# Altium integrated library National Semiconductor Analog.IntLib: 165 symbols (part 4 of 5)
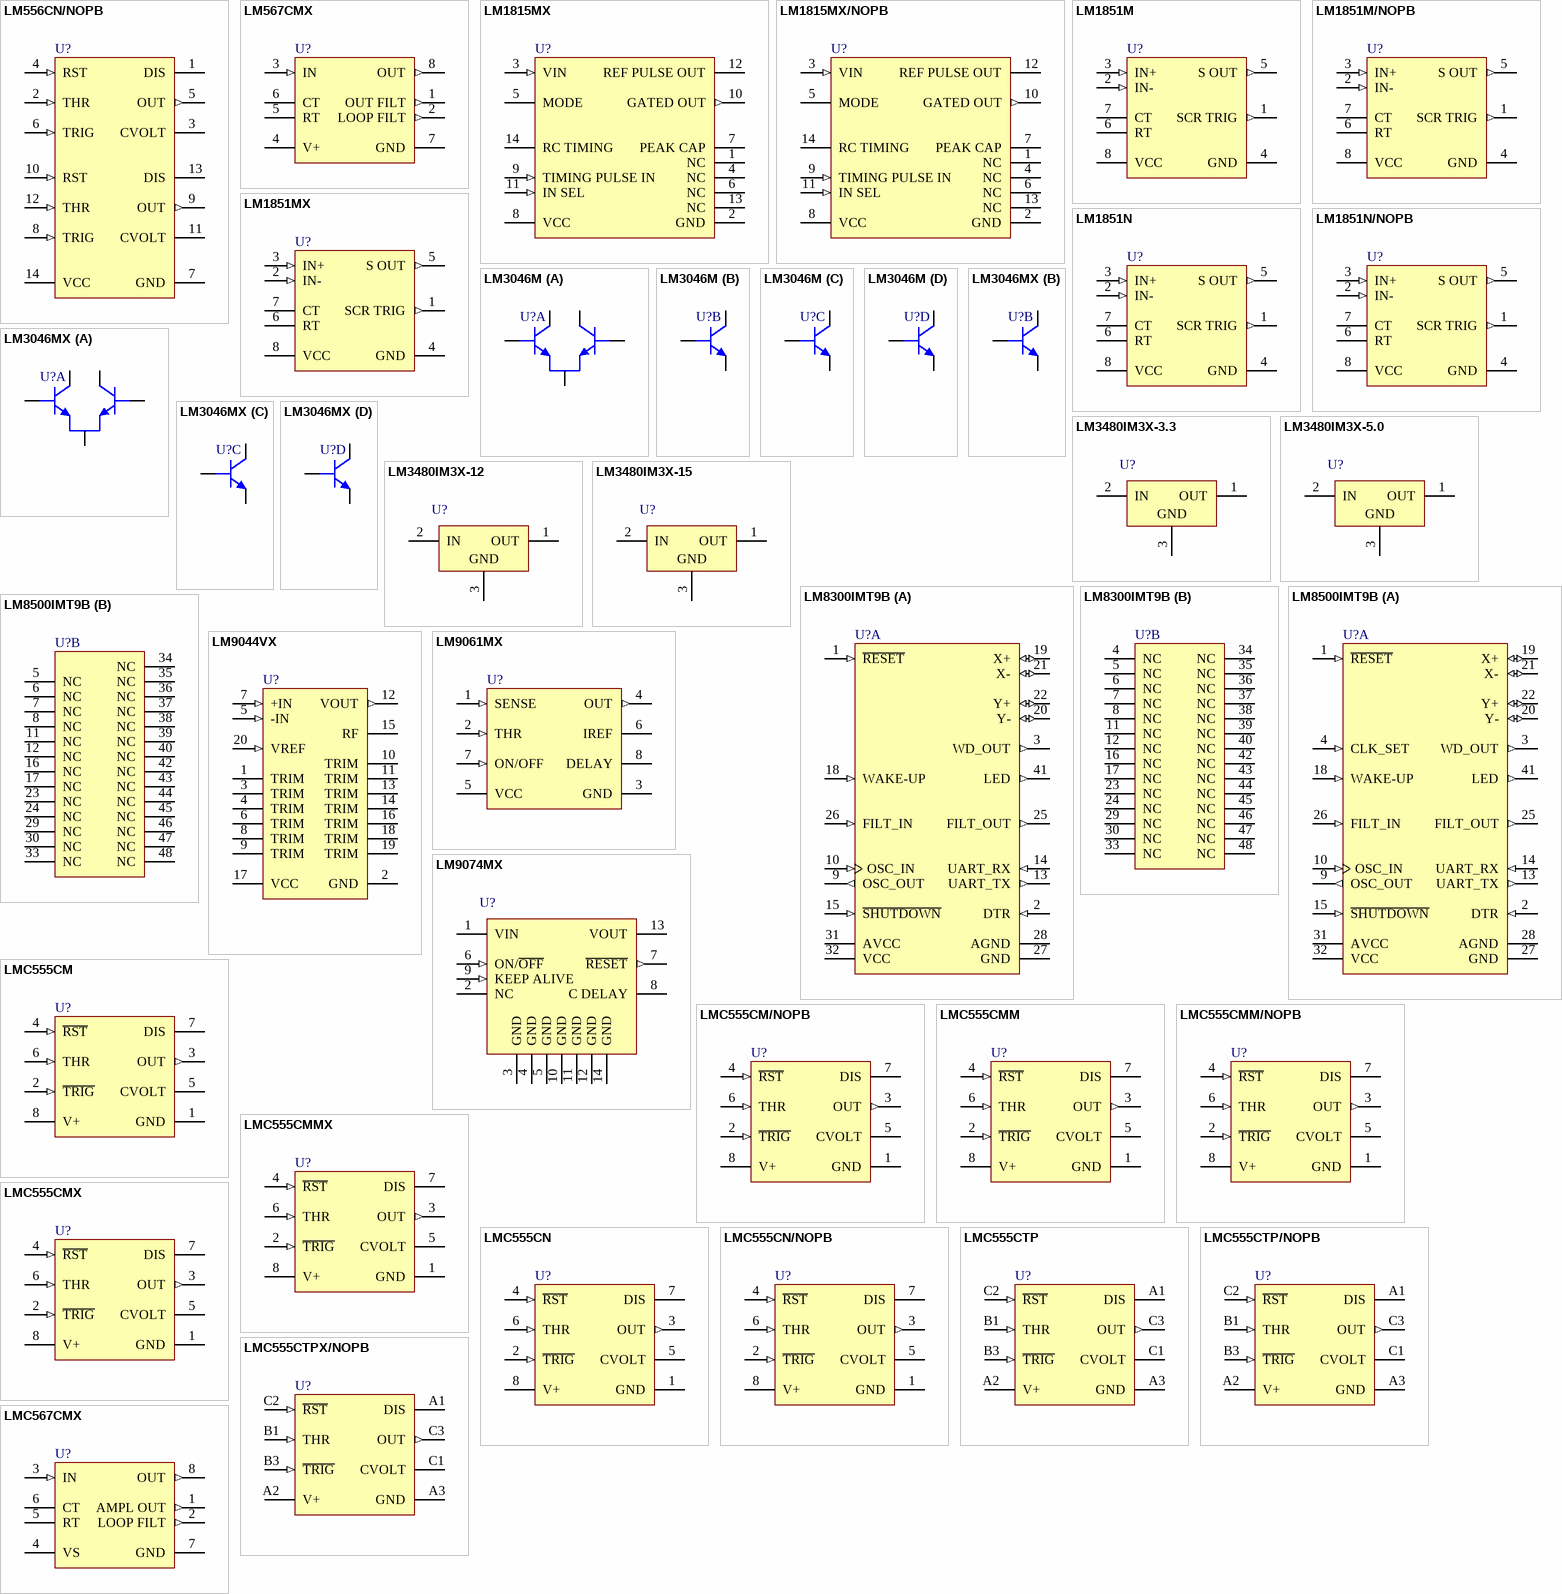
[diagram p10: symbols LM556CN/NOPB to LMC567CMX]

## LMC555CM/NOPB
designator U?
CMOS Timer, 8-pin Narrow SOIC, Pb-Free; PartNumber: LMC555CM/NOPB; Manufacturer: National Semiconductor; PackageTopMarking: NSZXTT*LMC*555CM; PowerWise: N; CompType: Analog IC; High-Reliability: Y; DatasheetVersion: May-2006; PackageVersion: revM, May-2009; PackageReference: M08A; PackageDescription: SOIC Narrow, 4.9 x 3.9 x 1.45mm, 8 Lead, 1.27mm Pitch; RoHS: Y; PinCount: 8; Code_JEDEC: MS-012-AA; Code_IPC: SOIC127P600-8; ComponentLink1Description: Manufacturer URL; ComponentLink1URL: http://www.national.com/; ComponentLink2Description: LMC555 Datasheet; ComponentLink2URL: http://www.national.com/ds/LM/LMC555.pdf; ComponentLink3Description: LMC555 Web Page; ComponentLink3URL: http://www.national.com/pf/LM/LMC555.html; ComponentLink4Description: M08A Package Page; ComponentLink4URL: http://www.national.com/packaging/folders/m08a.html
footprint M08A_N (SOIC, 8-Leads, Body 4.9x3.9mm, Pitch 1.27mm, IPC Medium Density)
footprint M08A_L (SOIC, 8-Leads, Body 4.9x3.9mm, Pitch 1.27mm, IPC High Density)
footprint M08A_M (SOIC, 8-Leads, Body 4.9x3.9mm, Pitch 1.27mm, IPC Low Density)
pins: 1 GND (power), 2 ~{TRIG} (in), 3 OUT (out), 4 ~{RST} (in), 5 CVOLT, 6 THR (in), 7 DIS (oc), 8 V+ (power)

## LMC555CMM
designator U?
CMOS Timer, 8-pin Mini SOIC; PartNumber: LMC555CMM; Manufacturer: National Semiconductor; PackageTopMarking: ZXTT*ZC5; PowerWise: N; CompType: Analog IC; High-Reliability: Y; DatasheetVersion: May-2006; PackageVersion: revF, Apr-2008; PackageReference: MUA08A; PackageDescription: MINI SOIC, .118 x .118 x .034in, 8 Lead, .0256in Pitch; RoHS: N; PinCount: 8; Code_JEDEC: MO-187-AA; ComponentLink1Description: Manufacturer URL; ComponentLink1URL: http://www.national.com/; ComponentLink2Description: LMC555 Datasheet; ComponentLink2URL: http://www.national.com/ds/LM/LMC555.pdf; ComponentLink3Description: LMC555 Web Page; ComponentLink3URL: http://www.national.com/pf/LM/LMC555.html; ComponentLink4Description: MUA08A Package Page; ComponentLink4URL: http://www.national.com/packaging/folders/mua08a.html
footprint MUA08A_N (TSOP, 8-Leads, Body 3x3mm, Pitch 0.65mm, IPC Medium Density)
footprint MUA08A_L (TSOP, 8-Leads, Body 3x3mm, Pitch 0.65mm, IPC High Density)
footprint MUA08A_M (TSOP, 8-Leads, Body 3x3mm, Pitch 0.65mm, IPC Low Density)
pins: 1 GND (power), 2 ~{TRIG} (in), 3 OUT (out), 4 ~{RST} (in), 5 CVOLT, 6 THR (in), 7 DIS (oc), 8 V+ (power)

## LMC555CMM/NOPB
designator U?
CMOS Timer, 8-pin Mini SOIC, Pb-Free; PartNumber: LMC555CMM/NOPB; Manufacturer: National Semiconductor; PackageTopMarking: ZXTT*ZC5; PowerWise: N; CompType: Analog IC; High-Reliability: Y; DatasheetVersion: May-2006; PackageVersion: revF, Apr-2008; PackageReference: MUA08A; PackageDescription: MINI SOIC, .118 x .118 x .034in, 8 Lead, .0256in Pitch; RoHS: Y; PinCount: 8; Code_JEDEC: MO-187-AA; ComponentLink1Description: Manufacturer URL; ComponentLink1URL: http://www.national.com/; ComponentLink2Description: LMC555 Datasheet; ComponentLink2URL: http://www.national.com/ds/LM/LMC555.pdf; ComponentLink3Description: LMC555 Web Page; ComponentLink3URL: http://www.national.com/pf/LM/LMC555.html; ComponentLink4Description: MUA08A Package Page; ComponentLink4URL: http://www.national.com/packaging/folders/mua08a.html
footprint MUA08A_N (TSOP, 8-Leads, Body 3x3mm, Pitch 0.65mm, IPC Medium Density)
footprint MUA08A_L (TSOP, 8-Leads, Body 3x3mm, Pitch 0.65mm, IPC High Density)
footprint MUA08A_M (TSOP, 8-Leads, Body 3x3mm, Pitch 0.65mm, IPC Low Density)
pins: 1 GND (power), 2 ~{TRIG} (in), 3 OUT (out), 4 ~{RST} (in), 5 CVOLT, 6 THR (in), 7 DIS (oc), 8 V+ (power)

## LMC555CMMX
designator U?
CMOS Timer, 8-pin Mini SOIC; PartNumber: LMC555CMMX; Manufacturer: National Semiconductor; PackageTopMarking: ZXTT*ZC5; PowerWise: N; CompType: Analog IC; High-Reliability: Y; DatasheetVersion: May-2006; PackageVersion: revF, Apr-2008; PackageReference: MUA08A; PackageDescription: MINI SOIC, .118 x .118 x .034in, 8 Lead, .0256in Pitch; RoHS: N; PinCount: 8; Code_JEDEC: MO-187-AA; ComponentLink1Description: Manufacturer URL; ComponentLink1URL: http://www.national.com/; ComponentLink2Description: LMC555 Datasheet; ComponentLink2URL: http://www.national.com/ds/LM/LMC555.pdf; ComponentLink3Description: LMC555 Web Page; ComponentLink3URL: http://www.national.com/pf/LM/LMC555.html; ComponentLink4Description: MUA08A Package Page; ComponentLink4URL: http://www.national.com/packaging/folders/mua08a.html
footprint MUA08A_N (TSOP, 8-Leads, Body 3x3mm, Pitch 0.65mm, IPC Medium Density)
footprint MUA08A_L (TSOP, 8-Leads, Body 3x3mm, Pitch 0.65mm, IPC High Density)
footprint MUA08A_M (TSOP, 8-Leads, Body 3x3mm, Pitch 0.65mm, IPC Low Density)
pins: 1 GND (power), 2 ~{TRIG} (in), 3 OUT (out), 4 ~{RST} (in), 5 CVOLT, 6 THR (in), 7 DIS (oc), 8 V+ (power)

## LMC555CMX
designator U?
CMOS Timer, 8-pin Narrow SOIC; PartNumber: LMC555CMX; Manufacturer: National Semiconductor; PackageTopMarking: NSZXTT*LMC*555CM; PowerWise: N; CompType: Analog IC; High-Reliability: Y; DatasheetVersion: May-2006; PackageVersion: revM, May-2009; PackageReference: M08A; PackageDescription: SOIC Narrow, 4.9 x 3.9 x 1.45mm, 8 Lead, 1.27mm Pitch; RoHS: N; PinCount: 8; Code_JEDEC: MS-012-AA; Code_IPC: SOIC127P600-8; ComponentLink1Description: Manufacturer URL; ComponentLink1URL: http://www.national.com/; ComponentLink2Description: LMC555 Datasheet; ComponentLink2URL: http://www.national.com/ds/LM/LMC555.pdf; ComponentLink3Description: LMC555 Web Page; ComponentLink3URL: http://www.national.com/pf/LM/LMC555.html; ComponentLink4Description: M08A Package Page; ComponentLink4URL: http://www.national.com/packaging/folders/m08a.html
footprint M08A_N (SOIC, 8-Leads, Body 4.9x3.9mm, Pitch 1.27mm, IPC Medium Density)
footprint M08A_L (SOIC, 8-Leads, Body 4.9x3.9mm, Pitch 1.27mm, IPC High Density)
footprint M08A_M (SOIC, 8-Leads, Body 4.9x3.9mm, Pitch 1.27mm, IPC Low Density)
pins: 1 GND (power), 2 ~{TRIG} (in), 3 OUT (out), 4 ~{RST} (in), 5 CVOLT, 6 THR (in), 7 DIS (oc), 8 V+ (power)

## LMC555CN
designator U?
CMOS Timer, 8-pin MDIP; PartNumber: LMC555CN; Manufacturer: National Semiconductor; PackageTopMarking: NSUZXYTTE#*LMC*555CN; PowerWise: N; CompType: Analog IC; High-Reliability: Y; DatasheetVersion: May-2006; PackageVersion: revG, May-2006; PackageReference: N08E; PackageDescription: MDIP, .365 x .250 x .130in, 8 Lead, .100in Pitch; RoHS: N; PinCount: 8; Code_JEDEC: MS-001-BA; ComponentLink1Description: Manufacturer URL; ComponentLink1URL: http://www.national.com/; ComponentLink2Description: LMC555 Datasheet; ComponentLink2URL: http://www.national.com/ds/LM/LMC555.pdf; ComponentLink3Description: LMC555 Web Page; ComponentLink3URL: http://www.national.com/pf/LM/LMC555.html; ComponentLink4Description: N08E Package Page; ComponentLink4URL: http://www.national.com/packaging/folders/n08e.html
footprint N08E (DIP, 8-Leads, Row Spacing 7.62mm, Pitch 2.54mm, Body 9.91x6.35mm)
pins: 1 GND (power), 2 ~{TRIG} (in), 3 OUT (out), 4 ~{RST} (in), 5 CVOLT, 6 THR (in), 7 DIS (oc), 8 V+ (power)

## LMC555CN/NOPB
designator U?
CMOS Timer, 8-pin MDIP, Pb-Free; PartNumber: LMC555CN/NOPB; Manufacturer: National Semiconductor; PackageTopMarking: NSUZXYTTE#*LMC*555CN; PowerWise: N; CompType: Analog IC; High-Reliability: Y; DatasheetVersion: May-2006; PackageVersion: revG, May-2006; PackageReference: N08E; PackageDescription: MDIP, .365 x .250 x .130in, 8 Lead, .100in Pitch; RoHS: Y; PinCount: 8; Code_JEDEC: MS-001-BA; ComponentLink1Description: Manufacturer URL; ComponentLink1URL: http://www.national.com/; ComponentLink2Description: LMC555 Datasheet; ComponentLink2URL: http://www.national.com/ds/LM/LMC555.pdf; ComponentLink3Description: LMC555 Web Page; ComponentLink3URL: http://www.national.com/pf/LM/LMC555.html; ComponentLink4Description: N08E Package Page; ComponentLink4URL: http://www.national.com/packaging/folders/n08e.html
footprint N08E (DIP, 8-Leads, Row Spacing 7.62mm, Pitch 2.54mm, Body 9.91x6.35mm)
pins: 1 GND (power), 2 ~{TRIG} (in), 3 OUT (out), 4 ~{RST} (in), 5 CVOLT, 6 THR (in), 7 DIS (oc), 8 V+ (power)

## LMC555CTP
designator U?
CMOS Timer, 8-pin Micro SMD; PartNumber: LMC555CTP; Manufacturer: National Semiconductor; PackageTopMarking: XVF*I 02; PowerWise: N; CompType: Analog IC; High-Reliability: Y; DatasheetVersion: May-2006; PackageVersion: revA, Mar-2002; PackageReference: TPA08FGA; PackageDescription: Thin Micro SMD, 8 Bump, 0.5mm Pitch; RoHS: Y; PinCount: 8; Code_JEDEC: MO-211-BC; ComponentLink1Description: Manufacturer URL; ComponentLink1URL: http://www.national.com/; ComponentLink2Description: LMC555 Datasheet; ComponentLink2URL: http://www.national.com/ds/LM/LMC555.pdf; ComponentLink3Description: LMC555 Web Page; ComponentLink3URL: http://www.national.com/pf/LM/LMC555.html; ComponentLink4Description: TPA08FGA Package Page; ComponentLink4URL: http://www.national.com/packaging/folders/tpa08fga.html
footprint TPA08FGA (Micro SMD, 8-Leads, Body 1.44x1.41mm, Pitch 0.5mm, NSC Recommended)
pins: A1 DIS (oc), A2 V+ (power), A3 GND (power), B1 THR (in), B3 ~{TRIG} (in), C1 CVOLT, C2 ~{RST} (in), C3 OUT (out)

## LMC555CTP/NOPB
designator U?
CMOS Timer, 8-pin Micro SMD, Pb-Free; PartNumber: LMC555CTP/NOPB; Manufacturer: National Semiconductor; PackageTopMarking: XVF*I 02; PowerWise: N; CompType: Analog IC; High-Reliability: Y; DatasheetVersion: May-2006; PackageVersion: revA, Mar-2002; PackageReference: TPA08FGA; PackageDescription: Thin Micro SMD, 8 Bump, 0.5mm Pitch; RoHS: Y; PinCount: 8; Code_JEDEC: MO-211-BC; ComponentLink1Description: Manufacturer URL; ComponentLink1URL: http://www.national.com/; ComponentLink2Description: LMC555 Datasheet; ComponentLink2URL: http://www.national.com/ds/LM/LMC555.pdf; ComponentLink3Description: LMC555 Web Page; ComponentLink3URL: http://www.national.com/pf/LM/LMC555.html; ComponentLink4Description: TPA08FGA Package Page; ComponentLink4URL: http://www.national.com/packaging/folders/tpa08fga.html
footprint TPA08FGA (Micro SMD, 8-Leads, Body 1.44x1.41mm, Pitch 0.5mm, NSC Recommended)
pins: A1 DIS (oc), A2 V+ (power), A3 GND (power), B1 THR (in), B3 ~{TRIG} (in), C1 CVOLT, C2 ~{RST} (in), C3 OUT (out)

## LMC555CTPX/NOPB
designator U?
CMOS Timer, 8-pin Micro SMD, Pb-Free; PartNumber: LMC555CTPX/NOPB; Manufacturer: National Semiconductor; PackageTopMarking: XVF*I 02; PowerWise: N; CompType: Analog IC; High-Reliability: Y; DatasheetVersion: May-2006; PackageVersion: revA, Mar-2002; PackageReference: TPA08FGA; PackageDescription: Thin Micro SMD, 8 Bump, 0.5mm Pitch; RoHS: Y; PinCount: 8; Code_JEDEC: MO-211-BC; ComponentLink1Description: Manufacturer URL; ComponentLink1URL: http://www.national.com/; ComponentLink2Description: LMC555 Datasheet; ComponentLink2URL: http://www.national.com/ds/LM/LMC555.pdf; ComponentLink3Description: LMC555 Web Page; ComponentLink3URL: http://www.national.com/pf/LM/LMC555.html; ComponentLink4Description: TPA08FGA Package Page; ComponentLink4URL: http://www.national.com/packaging/folders/tpa08fga.html
footprint TPA08FGA (Micro SMD, 8-Leads, Body 1.44x1.41mm, Pitch 0.5mm, NSC Recommended)
pins: A1 DIS (oc), A2 V+ (power), A3 GND (power), B1 THR (in), B3 ~{TRIG} (in), C1 CVOLT, C2 ~{RST} (in), C3 OUT (out)

## LMC567CMX
designator U?
Low Power Tone Decoder, 8-pin Narrow SOIC; PartNumber: LMC567CMX; Manufacturer: National Semiconductor; PackageTopMarking: NSZXTT*LMC*567CM; PowerWise: N; CompType: Analog IC; High-Reliability: Y; DatasheetVersion: Jun-1999; PackageVersion: revM, May-2009; PackageReference: M08A; PackageDescription: SOIC Narrow, 4.9 x 3.9 x 1.45mm, 8 Lead, 1.27mm Pitch; RoHS: N; PinCount: 8; Code_JEDEC: MS-012-AA; Code_IPC: SOIC127P600-8; ComponentLink1Description: Manufacturer URL; ComponentLink1URL: http://www.national.com/; ComponentLink2Description: LMC567 Datasheet; ComponentLink2URL: http://www.national.com/ds/LM/LMC567.pdf; ComponentLink3Description: LMC567 Web Page; ComponentLink3URL: http://www.national.com/pf/LM/LMC567.html; ComponentLink4Description: M08A Package Page; ComponentLink4URL: http://www.national.com/packaging/folders/m08a.html
footprint M08A_N (SOIC, 8-Leads, Body 4.9x3.9mm, Pitch 1.27mm, IPC Medium Density)
footprint M08A_L (SOIC, 8-Leads, Body 4.9x3.9mm, Pitch 1.27mm, IPC High Density)
footprint M08A_M (SOIC, 8-Leads, Body 4.9x3.9mm, Pitch 1.27mm, IPC Low Density)
pins: 1 AMPL OUT (out), 2 LOOP FILT (out), 3 IN (in), 4 VS (power), 5 RT, 6 CT, 7 GND (power), 8 OUT (out)

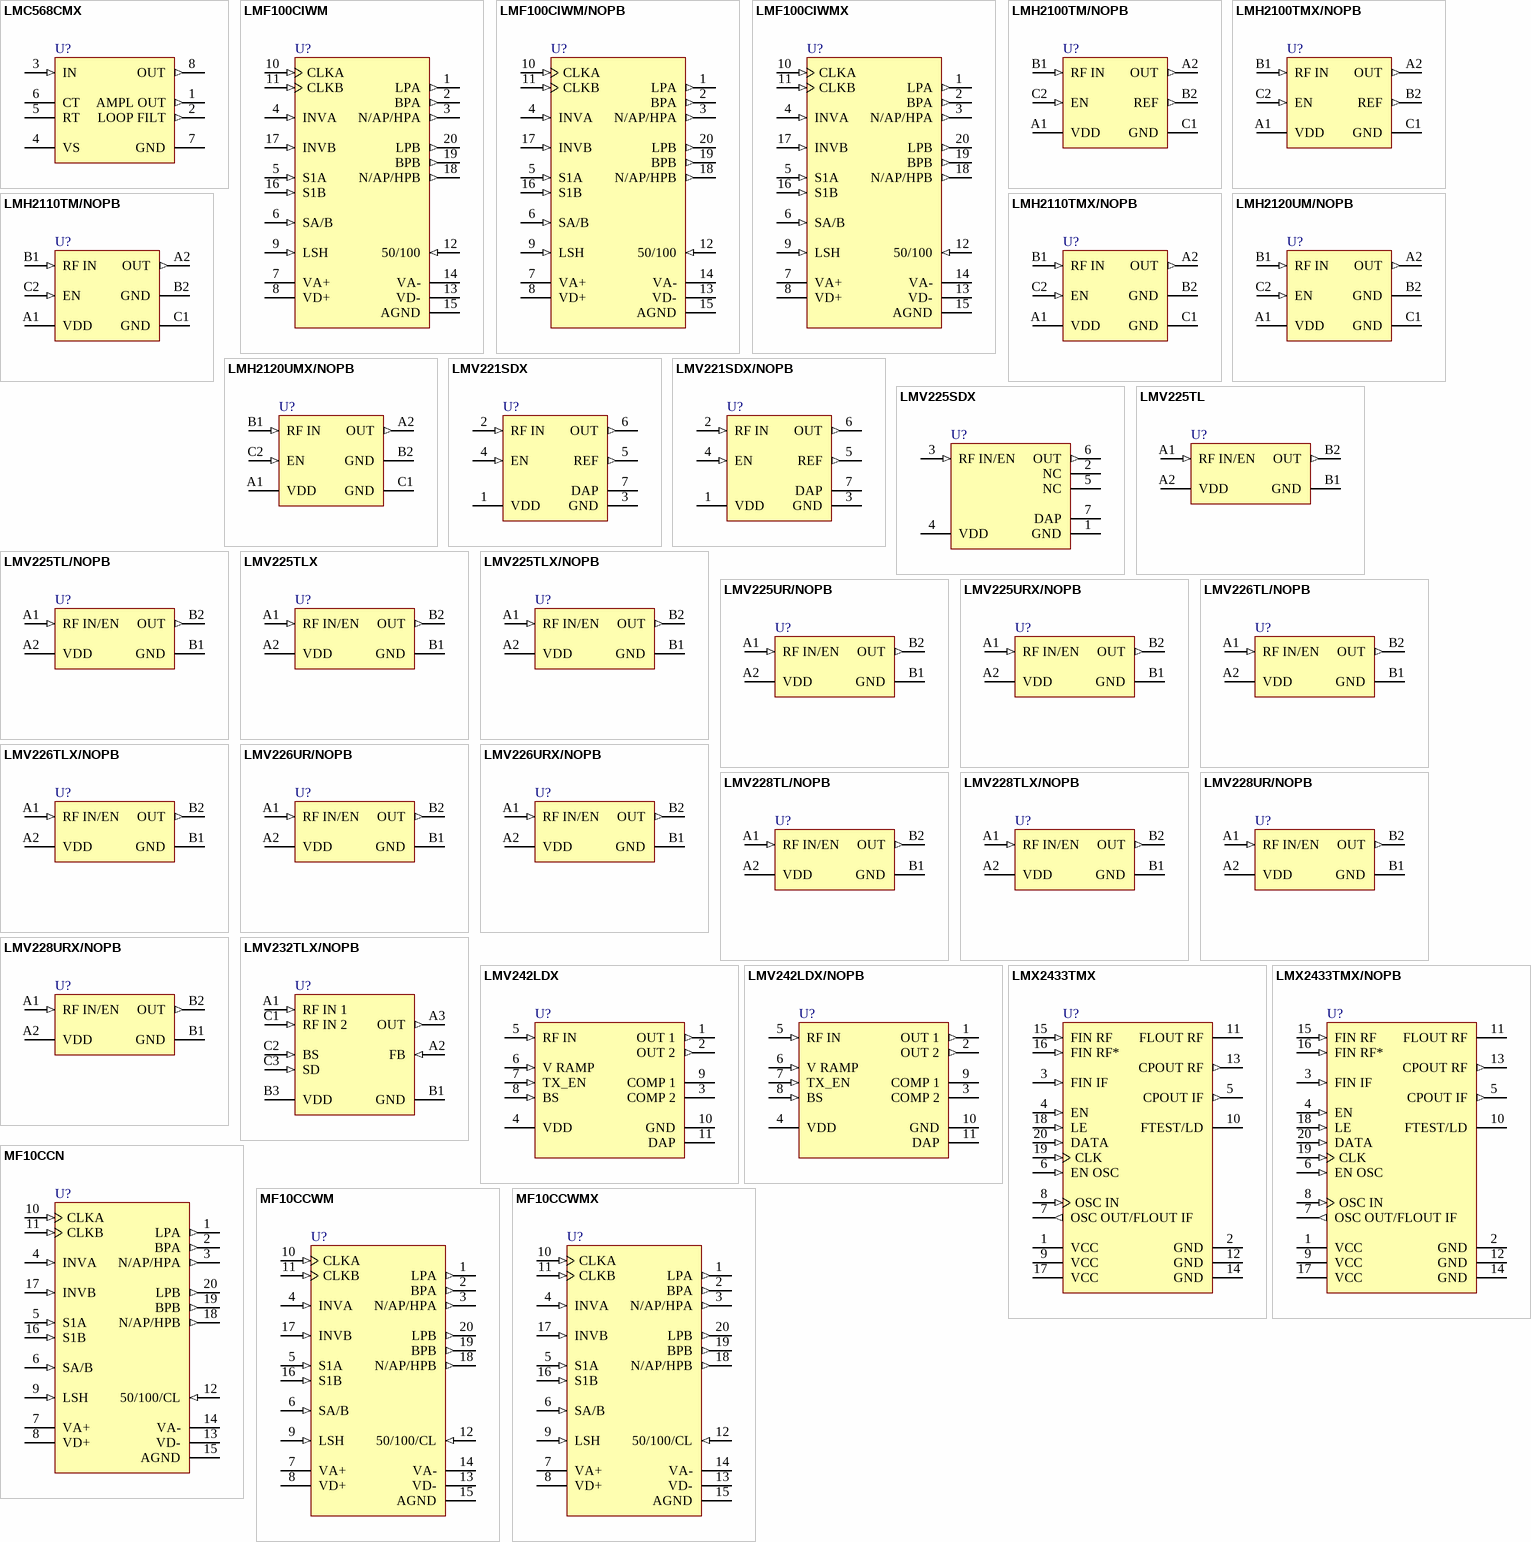
[diagram p6: symbols LMC568CMX to MF10CCWMX]

## LMC568CMX
designator U?
Low Power Phase-Locked Loop, 8-pin Narrow SOIC; PartNumber: LMC568CMX; Manufacturer: National Semiconductor; PackageTopMarking: NSZXTT*LMC*568CM; PowerWise: N; CompType: Analog IC; High-Reliability: Y; DatasheetVersion: May-1999; PackageVersion: revM, May-2009; PackageReference: M08A; PackageDescription: SOIC Narrow, 4.9 x 3.9 x 1.45mm, 8 Lead, 1.27mm Pitch; RoHS: N; PinCount: 8; Code_JEDEC: MS-012-AA; Code_IPC: SOIC127P600-8; ComponentLink1Description: Manufacturer URL; ComponentLink1URL: http://www.national.com/; ComponentLink2Description: LMC568 Datasheet; ComponentLink2URL: http://www.national.com/ds/LM/LMC568.pdf; ComponentLink3Description: LMC568 Web Page; ComponentLink3URL: http://www.national.com/pf/LM/LMC568.html; ComponentLink4Description: M08A Package Page; ComponentLink4URL: http://www.national.com/packaging/folders/m08a.html
footprint M08A_N (SOIC, 8-Leads, Body 4.9x3.9mm, Pitch 1.27mm, IPC Medium Density)
footprint M08A_L (SOIC, 8-Leads, Body 4.9x3.9mm, Pitch 1.27mm, IPC High Density)
footprint M08A_M (SOIC, 8-Leads, Body 4.9x3.9mm, Pitch 1.27mm, IPC Low Density)
pins: 1 AMPL OUT (out), 2 LOOP FILT (out), 3 IN (in), 4 VS (power), 5 RT, 6 CT, 7 GND (power), 8 OUT (out)

## LMF100CIWM
designator U?
High Performance Dual Switched Capacitor Filter, 20-pin Wide SOIC; PartNumber: LMF100CIWM; Manufacturer: National Semiconductor; PackageTopMarking: NSUZXYTTE#*LMF100*CIWM; PowerWise: N; CompType: Analog IC; High-Reliability: Y; DatasheetVersion: Jul-1999; PackageVersion: revG, Jan-1996; PackageReference: M20B; PackageDescription: Molded Package, S0, .300in Wide, 20 Lead; RoHS: N; PinCount: 20; Code_JEDEC: MS-013-AC; Code_IPC: SOIC127P1030-20; ComponentLink1Description: Manufacturer URL; ComponentLink1URL: http://www.national.com/; ComponentLink2Description: LMF100 Datasheet; ComponentLink2URL: http://www.national.com/ds/LM/LMF100.pdf; ComponentLink3Description: LMF100 Web Page; ComponentLink3URL: http://www.national.com/pf/LM/LMF100.html; ComponentLink4Description: M20B Package Page; ComponentLink4URL: http://www.national.com/packaging/folders/m20b.html
footprint M20B_N (SOIC, 20-Leads, Body 12.8x7.5mm, Pitch 1.27mm, IPC Medium Density)
footprint M20B_L (SOIC, 20-Leads, Body 12.8x7.5mm, Pitch 1.27mm, IPC High Density)
footprint M20B_M (SOIC, 20-Leads, Body 12.8x7.5mm, Pitch 1.27mm, IPC Low Density)
pins: 1 LPA (out), 2 BPA (out), 3 N/AP/HPA (out), 4 INVA (in), 5 S1A (in), 6 SA/B (in), 7 VA+ (power), 8 VD+ (power), 9 LSH (in), 10 CLKA (in), 11 CLKB (in), 12 50/100 (in), 13 VD- (power), 14 VA- (power), 15 AGND (power), 16 S1B (in), 17 INVB (in), 18 N/AP/HPB (out), 19 BPB (out), 20 LPB (out)

## LMF100CIWM/NOPB
designator U?
High Performance Dual Switched Capacitor Filter, 20-pin Wide SOIC, Pb-Free; PartNumber: LMF100CIWM/NOPB; Manufacturer: National Semiconductor; PackageTopMarking: NSUZXYTTE#*LMF100*CIWM; PowerWise: N; CompType: Analog IC; High-Reliability: Y; DatasheetVersion: Jul-1999; PackageVersion: revG, Jan-1996; PackageReference: M20B; PackageDescription: Molded Package, S0, .300in Wide, 20 Lead; RoHS: Y; PinCount: 20; Code_JEDEC: MS-013-AC; Code_IPC: SOIC127P1030-20; ComponentLink1Description: Manufacturer URL; ComponentLink1URL: http://www.national.com/; ComponentLink2Description: LMF100 Datasheet; ComponentLink2URL: http://www.national.com/ds/LM/LMF100.pdf; ComponentLink3Description: LMF100 Web Page; ComponentLink3URL: http://www.national.com/pf/LM/LMF100.html; ComponentLink4Description: M20B Package Page; ComponentLink4URL: http://www.national.com/packaging/folders/m20b.html
footprint M20B_N (SOIC, 20-Leads, Body 12.8x7.5mm, Pitch 1.27mm, IPC Medium Density)
footprint M20B_L (SOIC, 20-Leads, Body 12.8x7.5mm, Pitch 1.27mm, IPC High Density)
footprint M20B_M (SOIC, 20-Leads, Body 12.8x7.5mm, Pitch 1.27mm, IPC Low Density)
pins: 1 LPA (out), 2 BPA (out), 3 N/AP/HPA (out), 4 INVA (in), 5 S1A (in), 6 SA/B (in), 7 VA+ (power), 8 VD+ (power), 9 LSH (in), 10 CLKA (in), 11 CLKB (in), 12 50/100 (in), 13 VD- (power), 14 VA- (power), 15 AGND (power), 16 S1B (in), 17 INVB (in), 18 N/AP/HPB (out), 19 BPB (out), 20 LPB (out)

## LMF100CIWMX
designator U?
High Performance Dual Switched Capacitor Filter, 20-pin Wide SOIC; PartNumber: LMF100CIWMX; Manufacturer: National Semiconductor; PackageTopMarking: NSUZXYTTE#*LMF100*CIWM; PowerWise: N; CompType: Analog IC; High-Reliability: Y; DatasheetVersion: Jul-1999; PackageVersion: revG, Jan-1996; PackageReference: M20B; PackageDescription: Molded Package, S0, .300in Wide, 20 Lead; RoHS: N; PinCount: 20; Code_JEDEC: MS-013-AC; Code_IPC: SOIC127P1030-20; ComponentLink1Description: Manufacturer URL; ComponentLink1URL: http://www.national.com/; ComponentLink2Description: LMF100 Datasheet; ComponentLink2URL: http://www.national.com/ds/LM/LMF100.pdf; ComponentLink3Description: LMF100 Web Page; ComponentLink3URL: http://www.national.com/pf/LM/LMF100.html; ComponentLink4Description: M20B Package Page; ComponentLink4URL: http://www.national.com/packaging/folders/m20b.html
footprint M20B_N (SOIC, 20-Leads, Body 12.8x7.5mm, Pitch 1.27mm, IPC Medium Density)
footprint M20B_L (SOIC, 20-Leads, Body 12.8x7.5mm, Pitch 1.27mm, IPC High Density)
footprint M20B_M (SOIC, 20-Leads, Body 12.8x7.5mm, Pitch 1.27mm, IPC Low Density)
pins: 1 LPA (out), 2 BPA (out), 3 N/AP/HPA (out), 4 INVA (in), 5 S1A (in), 6 SA/B (in), 7 VA+ (power), 8 VD+ (power), 9 LSH (in), 10 CLKA (in), 11 CLKB (in), 12 50/100 (in), 13 VD- (power), 14 VA- (power), 15 AGND (power), 16 S1B (in), 17 INVB (in), 18 N/AP/HPB (out), 19 BPB (out), 20 LPB (out)

## LMH2100TM/NOPB
designator U?
50 MHz to 4 GHz 40 dB Logarithmic Power Detector for CDMA and WCDMA, 6-pin Micro SMD, Pb-Free; PartNumber: LMH2100TM/NOPB; Manufacturer: National Semiconductor; PackageTopMarking: XV*I J; PowerWise: N; CompType: Analog IC; High-Reliability: Y; DatasheetVersion: Mar-2008; PackageVersion: revB; PackageReference: TMD06BBA; PackageDescription: Thin Micro SMD, 6 Bump, 0.4mm Pitch; RoHS: Y; PinCount: 6; ComponentLink1Description: Manufacturer URL; ComponentLink1URL: http://www.national.com/; ComponentLink2Description: LMH2100 Datasheet; ComponentLink2URL: http://www.national.com/ds/LM/LMH2100.pdf; ComponentLink3Description: LMH2100 Web Page; ComponentLink3URL: http://www.national.com/pf/LM/LMH2100.html; ComponentLink4Description: TMD06BBA Package Page; ComponentLink4URL: http://www.national.com/packaging/folders/tmd06bba.html
footprint TMD06BBA (Micro SMD, 6-Leads, Body 1.24x0.84mm, Pitch 0.4mm, NSC Recommended)
pins: A1 VDD (power), A2 OUT (out), B1 RF IN (in), B2 REF (out), C1 GND (power), C2 EN (in)

## LMH2100TMX/NOPB
designator U?
50 MHz to 4 GHz 40 dB Logarithmic Power Detector for CDMA and WCDMA, 6-pin Micro SMD, Pb-Free; PartNumber: LMH2100TMX/NOPB; Manufacturer: National Semiconductor; PackageTopMarking: XV*I J; PowerWise: N; CompType: Analog IC; High-Reliability: Y; DatasheetVersion: Mar-2008; PackageVersion: revB; PackageReference: TMD06BBA; PackageDescription: Thin Micro SMD, 6 Bump, 0.4mm Pitch; RoHS: Y; PinCount: 6; ComponentLink1Description: Manufacturer URL; ComponentLink1URL: http://www.national.com/; ComponentLink2Description: LMH2100 Datasheet; ComponentLink2URL: http://www.national.com/ds/LM/LMH2100.pdf; ComponentLink3Description: LMH2100 Web Page; ComponentLink3URL: http://www.national.com/pf/LM/LMH2100.html; ComponentLink4Description: TMD06BBA Package Page; ComponentLink4URL: http://www.national.com/packaging/folders/tmd06bba.html
footprint TMD06BBA (Micro SMD, 6-Leads, Body 1.24x0.84mm, Pitch 0.4mm, NSC Recommended)
pins: A1 VDD (power), A2 OUT (out), B1 RF IN (in), B2 REF (out), C1 GND (power), C2 EN (in)

## LMH2110TM/NOPB
designator U?
8 GHz Logarithmic RMS Power Detector with 45 dB dynamic range, 6-pin Micro SMD, Pb-Free; PartNumber: LMH2110TM/NOPB; Manufacturer: National Semiconductor; PackageTopMarking: XV*I P; PowerWise: N; CompType: Analog IC; High-Reliability: Y; DatasheetVersion: Jan-2010; PackageVersion: revB; PackageReference: TMD06BBA; PackageDescription: Thin Micro SMD, 6 Bump, 0.4mm Pitch; RoHS: Y; PinCount: 6; ComponentLink1Description: Manufacturer URL; ComponentLink1URL: http://www.national.com/; ComponentLink2Description: LMH2110 Datasheet; ComponentLink2URL: http://www.national.com/ds/LM/LMH2110.pdf; ComponentLink3Description: LMH2110 Web Page; ComponentLink3URL: http://www.national.com/pf/LM/LMH2110.html; ComponentLink4Description: TMD06BBA Package Page; ComponentLink4URL: http://www.national.com/packaging/folders/tmd06bba.html
footprint TMD06BBA (Micro SMD, 6-Leads, Body 1.24x0.84mm, Pitch 0.4mm, NSC Recommended)
pins: A1 VDD (power), A2 OUT (out), B1 RF IN (in), B2 GND (power), C1 GND (power), C2 EN (in)

## LMH2110TMX/NOPB
designator U?
8 GHz Logarithmic RMS Power Detector with 45 dB dynamic range, 6-pin Micro SMD, Pb-Free; PartNumber: LMH2110TMX/NOPB; Manufacturer: National Semiconductor; PackageTopMarking: XV*I P; PowerWise: N; CompType: Analog IC; High-Reliability: Y; DatasheetVersion: Jan-2010; PackageVersion: revB; PackageReference: TMD06BBA; PackageDescription: Thin Micro SMD, 6 Bump, 0.4mm Pitch; RoHS: Y; PinCount: 6; ComponentLink1Description: Manufacturer URL; ComponentLink1URL: http://www.national.com/; ComponentLink2Description: LMH2110 Datasheet; ComponentLink2URL: http://www.national.com/ds/LM/LMH2110.pdf; ComponentLink3Description: LMH2110 Web Page; ComponentLink3URL: http://www.national.com/pf/LM/LMH2110.html; ComponentLink4Description: TMD06BBA Package Page; ComponentLink4URL: http://www.national.com/packaging/folders/tmd06bba.html
footprint TMD06BBA (Micro SMD, 6-Leads, Body 1.24x0.84mm, Pitch 0.4mm, NSC Recommended)
pins: A1 VDD (power), A2 OUT (out), B1 RF IN (in), B2 GND (power), C1 GND (power), C2 EN (in)

## LMH2120UM/NOPB
designator U?
6 GHz Linear RMS Power Detector with 40 dB Dynamic Range, 6 pin MICRO SMD; PartNumber: LMH2120UM/NOPB; Manufacturer: National Semiconductor; PackageTopMarking: XV*I R; PowerWise: N; CompType: Analog IC; High-Reliability: Y; DatasheetVersion: Jul-2010; PackageVersion: revB, 2010; PackageReference: UMD06AAA; PackageDescription: Thin Micro SMD, 6 Bump, 0.4mm Pitch; RoHS: Y; PinCount: 6; ComponentLink1Description: Manufacturer URL; ComponentLink1URL: http://www.national.com/; ComponentLink2Description: LMH2120 Datasheet; ComponentLink2URL: http://www.national.com/ds/LM/LMH2120.pdf; ComponentLink3Description: LMH2120 Web Page; ComponentLink3URL: http://www.national.com/pf/LM/LMH2120.html; ComponentLink4Description: UMD06AAA Package Page; ComponentLink4URL: http://www.national.com/packaging/folders/umd06aaa.html
footprint UMD06AAA (Micro SMD, 6-Leads, Body 1.23x0.83mm, Pitch 0.4mm, NSC Recommended)
pins: A1 VDD (power), A2 OUT (out), B1 RF IN (in), B2 GND (power), C1 GND (power), C2 EN (in)

## LMH2120UMX/NOPB
designator U?
6 GHz Linear RMS Power Detector with 40 dB Dynamic Range, 6 pin MICRO SMD; PartNumber: LMH2120UMX/NOPB; Manufacturer: National Semiconductor; PackageTopMarking: XV*I R; PowerWise: N; CompType: Analog IC; High-Reliability: Y; DatasheetVersion: Jul-2010; PackageVersion: revB, 2010; PackageReference: UMD06AAA; PackageDescription: Thin Micro SMD, 6 Bump, 0.4mm Pitch; RoHS: Y; PinCount: 6; ComponentLink1Description: Manufacturer URL; ComponentLink1URL: http://www.national.com/; ComponentLink2Description: LMH2120 Datasheet; ComponentLink2URL: http://www.national.com/ds/LM/LMH2120.pdf; ComponentLink3Description: LMH2120 Web Page; ComponentLink3URL: http://www.national.com/pf/LM/LMH2120.html; ComponentLink4Description: UMD06AAA Package Page; ComponentLink4URL: http://www.national.com/packaging/folders/umd06aaa.html
footprint UMD06AAA (Micro SMD, 6-Leads, Body 1.23x0.83mm, Pitch 0.4mm, NSC Recommended)
pins: A1 VDD (power), A2 OUT (out), B1 RF IN (in), B2 GND (power), C1 GND (power), C2 EN (in)

## LMV221SDX
designator U?
50 MHz to 3.5 GHz 40 dB Logarithmic Power Detector for CDMA and WCDMA, 6-pin LLP; PartNumber: LMV221SDX; Manufacturer: National Semiconductor; PackageTopMarking: XTT*A96; PowerWise: Y; CompType: Analog IC; DatasheetVersion: Mar-2008; PackageVersion: revA, Nov-2003; PackageReference: SDB06A; PackageDescription: LLP, Plastic, Dual, 2.2 x 2.5 x 0.8mm Body, 6 Lead, 0.65mm Pitch, No Pullback; RoHS: N; PinCount: 6; High-Reliability: Y; ComponentLink1Description: Manufacturer URL; ComponentLink1URL: http://www.national.com/; ComponentLink2Description: LMV221 Datasheet; ComponentLink2URL: http://www.national.com/ds/LM/LMV221.pdf; ComponentLink3Description: LMV221 Web Page; ComponentLink3URL: http://www.national.com/pf/LM/LMV221.html; ComponentLink4Description: SDB06A package page; ComponentLink4URL: http://www.national.com/packaging/folders/sdb06a.html
footprint SDB06A (SON, 6-Leads, Body 2.2x2.5mm, Pitch 0.65mm, NSC Recommended (SC-70 Land))
pins: 1 VDD (power), 2 RF IN (in), 3 GND (power), 4 EN (in), 5 REF (out), 6 OUT (out), 7 DAP (power)

## LMV221SDX/NOPB
designator U?
50 MHz to 3.5 GHz 40 dB Logarithmic Power Detector for CDMA and WCDMA, 6-pin LLP, Pb-Free; PartNumber: LMV221SDX/NOPB; Manufacturer: National Semiconductor; PackageTopMarking: XTT*A96; PowerWise: Y; CompType: Analog IC; DatasheetVersion: Mar-2008; PackageVersion: revA, Nov-2003; PackageReference: SDB06A; PackageDescription: LLP, Plastic, Dual, 2.2 x 2.5 x 0.8mm Body, 6 Lead, 0.65mm Pitch, No Pullback; RoHS: Y; PinCount: 6; High-Reliability: Y; ComponentLink1Description: Manufacturer URL; ComponentLink1URL: http://www.national.com/; ComponentLink2Description: LMV221 Datasheet; ComponentLink2URL: http://www.national.com/ds/LM/LMV221.pdf; ComponentLink3Description: LMV221 Web Page; ComponentLink3URL: http://www.national.com/pf/LM/LMV221.html; ComponentLink4Description: SDB06A Package Page; ComponentLink4URL: http://www.national.com/packaging/folders/sdb06a.html
footprint SDB06A (SON, 6-Leads, Body 2.2x2.5mm, Pitch 0.65mm, NSC Recommended (SC-70 Land))
pins: 1 VDD (power), 2 RF IN (in), 3 GND (power), 4 EN (in), 5 REF (out), 6 OUT (out), 7 DAP (power)

## LMV225SDX
designator U?
RF Power Detector for CDMA and WCDMA, 6-pin LLP; PartNumber: LMV225SDX; Manufacturer: National Semiconductor; PackageTopMarking: XTT*A90; PowerWise: Y; CompType: Analog IC; DatasheetVersion: Oct-2006; PackageVersion: revA, Nov-2003; PackageReference: SDB06A; PackageDescription: LLP, Plastic, Dual, 2.2 x 2.5 x 0.8mm Body, 6 Lead, 0.65mm Pitch, No Pullback; RoHS: N; PinCount: 6; High-Reliability: Y; ComponentLink1Description: Manufacturer URL; ComponentLink1URL: http://www.national.com/; ComponentLink2Description: LMV225 Datasheet; ComponentLink2URL: http://www.national.com/ds/LM/LMV225.pdf; ComponentLink3Description: LMV225 Web Page; ComponentLink3URL: http://www.national.com/pf/LM/LMV225.html; ComponentLink4Description: SDB06A package page; ComponentLink4URL: http://www.national.com/packaging/folders/sdb06a.html
footprint SDB06A (SON, 6-Leads, Body 2.2x2.5mm, Pitch 0.65mm, NSC Recommended (SC-70 Land))
pins: 1 GND (power), 2 NC, 3 RF IN/EN (in), 4 VDD (power), 5 NC, 6 OUT (out), 7 DAP (power)

## LMV225TL
designator U?
RF Power Detector for CDMA and WCDMA from the PowerWise® Family, 4-pin Micro SMD; PartNumber: LMV225TL; Manufacturer: National Semiconductor; PackageTopMarking: X*I; PowerWise: Y; CompType: Analog IC; DatasheetVersion: Oct-2006; PackageVersion: revD, Mar-2005; PackageReference: TLA04AAA; PackageDescription: Thin Micro SMD, 4 Bump (Large), 0.5mm Pitch; RoHS: N; PinCount: 4; High-Reliability: Y; Code_JEDEC: MO-211-BA; ComponentLink1Description: Manufacturer URL; ComponentLink1URL: http://www.national.com/; ComponentLink2Description: LMV225 Datasheet; ComponentLink2URL: http://www.national.com/ds/LM/LMV225.pdf; ComponentLink3Description: LMV225 Web Page; ComponentLink3URL: http://www.national.com/pf/LM/LMV225.html; ComponentLink4Description: TLA04AAA package page; ComponentLink4URL: http://www.national.com/packaging/folders/tla04aaa.html
footprint TLA04AAA (Micro SMD, 4-Leads, Body 1.01x1.01mm, Pitch 0.5mm, NSC Recommended)
pins: A1 RF IN/EN (in), A2 VDD (power), B1 GND (power), B2 OUT (out)

## LMV225TL/NOPB
designator U?
RF Power Detector for CDMA and WCDMA, 4-pin Micro SMD, Pb-Free; PartNumber: LMV225TL/NOPB; Manufacturer: National Semiconductor; PackageTopMarking: X*I; PowerWise: Y; CompType: Analog IC; DatasheetVersion: Oct-2006; PackageVersion: revD, Mar-2005; PackageReference: TLA04AAA; PackageDescription: Thin Micro SMD, 4 Bump (Large), 0.5mm Pitch; RoHS: Y; PinCount: 4; High-Reliability: Y; Code_JEDEC: MO-211-BA; ComponentLink1Description: Manufacturer URL; ComponentLink1URL: http://www.national.com/; ComponentLink2Description: LMV225 Datasheet; ComponentLink2URL: http://www.national.com/ds/LM/LMV225.pdf; ComponentLink3Description: LMV225 Web Page; ComponentLink3URL: http://www.national.com/pf/LM/LMV225.html; ComponentLink4Description: TLA04AAA Package Page; ComponentLink4URL: http://www.national.com/packaging/folders/tla04aaa.html
footprint TLA04AAA (Micro SMD, 4-Leads, Body 1.01x1.01mm, Pitch 0.5mm, NSC Recommended)
pins: A1 RF IN/EN (in), A2 VDD (power), B1 GND (power), B2 OUT (out)

## LMV225TLX
designator U?
RF Power Detector for CDMA and WCDMA, 4-pin Micro SMD; PartNumber: LMV225TLX; Manufacturer: National Semiconductor; PackageTopMarking: X*I; PowerWise: Y; CompType: Analog IC; DatasheetVersion: Oct-2006; PackageVersion: revD, Mar-2005; PackageReference: TLA04AAA; PackageDescription: Thin Micro SMD, 4 Bump (Large), 0.5mm Pitch; RoHS: N; PinCount: 4; High-Reliability: Y; Code_JEDEC: MO-211-BA; ComponentLink1Description: Manufacturer URL; ComponentLink1URL: http://www.national.com/; ComponentLink2Description: LMV225 Datasheet; ComponentLink2URL: http://www.national.com/ds/LM/LMV225.pdf; ComponentLink3Description: LMV225 Web Page; ComponentLink3URL: http://www.national.com/pf/LM/LMV225.html; ComponentLink4Description: TLA04AAA package page; ComponentLink4URL: http://www.national.com/packaging/folders/tla04aaa.html
footprint TLA04AAA (Micro SMD, 4-Leads, Body 1.01x1.01mm, Pitch 0.5mm, NSC Recommended)
pins: A1 RF IN/EN (in), A2 VDD (power), B1 GND (power), B2 OUT (out)

## LMV225TLX/NOPB
designator U?
RF Power Detector for CDMA and WCDMA, 4-pin Micro SMD, Pb-Free; PartNumber: LMV225TLX/NOPB; Manufacturer: National Semiconductor; PackageTopMarking: X*I; PowerWise: Y; CompType: Analog IC; DatasheetVersion: Oct-2006; PackageVersion: revD, Mar-2005; PackageReference: TLA04AAA; PackageDescription: Thin Micro SMD, 4 Bump (Large), 0.5mm Pitch; RoHS: Y; PinCount: 4; High-Reliability: Y; Code_JEDEC: MO-211-BA; ComponentLink1Description: Manufacturer URL; ComponentLink1URL: http://www.national.com/; ComponentLink2Description: LMV225 Datasheet; ComponentLink2URL: http://www.national.com/ds/LM/LMV225.pdf; ComponentLink3Description: LMV225 Web Page; ComponentLink3URL: http://www.national.com/pf/LM/LMV225.html; ComponentLink4Description: TLA04AAA Package Page; ComponentLink4URL: http://www.national.com/packaging/folders/tla04aaa.html
footprint TLA04AAA (Micro SMD, 4-Leads, Body 1.01x1.01mm, Pitch 0.5mm, NSC Recommended)
pins: A1 RF IN/EN (in), A2 VDD (power), B1 GND (power), B2 OUT (out)

## LMV225UR/NOPB
designator U?
RF Power Detector for CDMA and WCDMA, 4-pin Micro SMD, Pb-Free; PartNumber: LMV225UR/NOPB; Manufacturer: National Semiconductor; PackageTopMarking: X*I; PowerWise: N; CompType: Analog IC; High-Reliability: Y; DatasheetVersion: Oct-2006; PackageVersion: revC, Mar-2005; PackageReference: URA04AAA; PackageDescription: Ultra Thin Micro SMD, 4 Bump (Large), 0.5mm Pitch; RoHS: Y; PinCount: 4; ComponentLink1Description: Manufacturer URL; ComponentLink1URL: http://www.national.com/; ComponentLink2Description: LMV225 Datasheet; ComponentLink2URL: http://www.national.com/ds/LM/LMV225.pdf; ComponentLink3Description: LMV225 Web Page; ComponentLink3URL: http://www.national.com/pf/LM/LMV225.html; ComponentLink4Description: URA04AAA Package Page; ComponentLink4URL: http://www.national.com/packaging/folders/ura04aaa.html
footprint URA04AAA (Micro SMD, 4-Leads, Body 0.98x0.98mm, Pitch 0.5mm, NSC Recommended)
pins: A1 RF IN/EN (in), A2 VDD (power), B1 GND (power), B2 OUT (out)

## LMV225URX/NOPB
designator U?
RF Power Detector for CDMA and WCDMA, 4-pin Micro SMD, Pb-Free; PartNumber: LMV225URX/NOPB; Manufacturer: National Semiconductor; PackageTopMarking: X*I; PowerWise: N; CompType: Analog IC; High-Reliability: Y; DatasheetVersion: Oct-2006; PackageVersion: revC, Mar-2005; PackageReference: URA04AAA; PackageDescription: Ultra Thin Micro SMD, 4 Bump (Large), 0.5mm Pitch; RoHS: Y; PinCount: 4; ComponentLink1Description: Manufacturer URL; ComponentLink1URL: http://www.national.com/; ComponentLink2Description: LMV225 Datasheet; ComponentLink2URL: http://www.national.com/ds/LM/LMV225.pdf; ComponentLink3Description: LMV225 Web Page; ComponentLink3URL: http://www.national.com/pf/LM/LMV225.html; ComponentLink4Description: URA04AAA Package Page; ComponentLink4URL: http://www.national.com/packaging/folders/ura04aaa.html
footprint URA04AAA (Micro SMD, 4-Leads, Body 0.98x0.98mm, Pitch 0.5mm, NSC Recommended)
pins: A1 RF IN/EN (in), A2 VDD (power), B1 GND (power), B2 OUT (out)

## LMV226TL/NOPB
designator U?
RF Power Detectors for CDMA and WCDMA, 4-pin Micro SMD, Pb-Free; PartNumber: LMV226TL/NOPB; Manufacturer: National Semiconductor; PackageTopMarking: X*I; PowerWise: N; CompType: Analog IC; High-Reliability: Y; DatasheetVersion: Oct-2006; PackageVersion: revD, Mar-2005; PackageReference: TLA04AAA; PackageDescription: Thin Micro SMD, 4 Bump (Large), 0.5mm Pitch; RoHS: Y; PinCount: 4; Code_JEDEC: MO-211-BA; ComponentLink1Description: Manufacturer URL; ComponentLink1URL: http://www.national.com/; ComponentLink2Description: LMV226 Datasheet; ComponentLink2URL: http://www.national.com/ds/LM/LMV226.pdf; ComponentLink3Description: LMV226 Web Page; ComponentLink3URL: http://www.national.com/pf/LM/LMV226.html; ComponentLink4Description: TLA04AAA Package Page; ComponentLink4URL: http://www.national.com/packaging/folders/tla04aaa.html
footprint TLA04AAA (Micro SMD, 4-Leads, Body 1.01x1.01mm, Pitch 0.5mm, NSC Recommended)
pins: A1 RF IN/EN (in), A2 VDD (power), B1 GND (power), B2 OUT (out)

## LMV226TLX/NOPB
designator U?
RF Power Detectors for CDMA and WCDMA, 4-pin Micro SMD, Pb-Free; PartNumber: LMV226TLX/NOPB; Manufacturer: National Semiconductor; PackageTopMarking: X*I; PowerWise: N; CompType: Analog IC; High-Reliability: Y; DatasheetVersion: Oct-2006; PackageVersion: revD, Mar-2005; PackageReference: TLA04AAA; PackageDescription: Thin Micro SMD, 4 Bump (Large), 0.5mm Pitch; RoHS: Y; PinCount: 4; Code_JEDEC: MO-211-BA; ComponentLink1Description: Manufacturer URL; ComponentLink1URL: http://www.national.com/; ComponentLink2Description: LMV226 Datasheet; ComponentLink2URL: http://www.national.com/ds/LM/LMV226.pdf; ComponentLink3Description: LMV226 Web Page; ComponentLink3URL: http://www.national.com/pf/LM/LMV226.html; ComponentLink4Description: TLA04AAA Package Page; ComponentLink4URL: http://www.national.com/packaging/folders/tla04aaa.html
footprint TLA04AAA (Micro SMD, 4-Leads, Body 1.01x1.01mm, Pitch 0.5mm, NSC Recommended)
pins: A1 RF IN/EN (in), A2 VDD (power), B1 GND (power), B2 OUT (out)

## LMV226UR/NOPB
designator U?
RF Power Detectors for CDMA and WCDMA, 4-pin Micro SMD, Pb-Free; PartNumber: LMV226UR/NOPB; Manufacturer: National Semiconductor; PackageTopMarking: X*I; PowerWise: N; CompType: Analog IC; High-Reliability: Y; DatasheetVersion: Oct-2006; PackageVersion: revC, Mar-2005; PackageReference: URA04AAA; PackageDescription: Ultra Thin Micro SMD, 4 Bump (Large), 0.5mm Pitch; RoHS: Y; PinCount: 4; ComponentLink1Description: Manufacturer URL; ComponentLink1URL: http://www.national.com/; ComponentLink2Description: LMV226 Datasheet; ComponentLink2URL: http://www.national.com/ds/LM/LMV226.pdf; ComponentLink3Description: LMV226 Web Page; ComponentLink3URL: http://www.national.com/pf/LM/LMV226.html; ComponentLink4Description: URA04AAA Package Page; ComponentLink4URL: http://www.national.com/packaging/folders/ura04aaa.html
footprint URA04AAA (Micro SMD, 4-Leads, Body 0.98x0.98mm, Pitch 0.5mm, NSC Recommended)
pins: A1 RF IN/EN (in), A2 VDD (power), B1 GND (power), B2 OUT (out)

## LMV226URX/NOPB
designator U?
RF Power Detectors for CDMA and WCDMA, 4-pin Micro SMD, Pb-Free; PartNumber: LMV226URX/NOPB; Manufacturer: National Semiconductor; PackageTopMarking: X*I; PowerWise: N; CompType: Analog IC; High-Reliability: Y; DatasheetVersion: Oct-2006; PackageVersion: revC, Mar-2005; PackageReference: URA04AAA; PackageDescription: Ultra Thin Micro SMD, 4 Bump (Large), 0.5mm Pitch; RoHS: Y; PinCount: 4; ComponentLink1Description: Manufacturer URL; ComponentLink1URL: http://www.national.com/; ComponentLink2Description: LMV226 Datasheet; ComponentLink2URL: http://www.national.com/ds/LM/LMV226.pdf; ComponentLink3Description: LMV226 Web Page; ComponentLink3URL: http://www.national.com/pf/LM/LMV226.html; ComponentLink4Description: URA04AAA Package Page; ComponentLink4URL: http://www.national.com/packaging/folders/ura04aaa.html
footprint URA04AAA (Micro SMD, 4-Leads, Body 0.98x0.98mm, Pitch 0.5mm, NSC Recommended)
pins: A1 RF IN/EN (in), A2 VDD (power), B1 GND (power), B2 OUT (out)

## LMV228TL/NOPB
designator U?
RF Power Detector for CDMA and WCDMA, 4-pin Micro SMD, Pb-Free; PartNumber: LMV228TL/NOPB; Manufacturer: National Semiconductor; PackageTopMarking: X*I; PowerWise: Y; CompType: Analog IC; DatasheetVersion: Oct-2006; PackageVersion: revD, Mar-2005; PackageReference: TLA04AAA; PackageDescription: Thin Micro SMD, 4 Bump (Large), 0.5mm Pitch; RoHS: Y; PinCount: 4; High-Reliability: Y; Code_JEDEC: MO-211-BA; ComponentLink1Description: Manufacturer URL; ComponentLink1URL: http://www.national.com/; ComponentLink2Description: LMV228 Datasheet; ComponentLink2URL: http://www.national.com/ds/LM/LMV228.pdf; ComponentLink3Description: LMV228 Web Page; ComponentLink3URL: http://www.national.com/pf/LM/LMV228.html; ComponentLink4Description: TLA04AAA Package Page; ComponentLink4URL: http://www.national.com/packaging/folders/tla04aaa.html
footprint TLA04AAA (Micro SMD, 4-Leads, Body 1.01x1.01mm, Pitch 0.5mm, NSC Recommended)
pins: A1 RF IN/EN (in), A2 VDD (power), B1 GND (power), B2 OUT (out)

## LMV228TLX/NOPB
designator U?
RF Power Detector for CDMA and WCDMA, 4-pin Micro SMD, Pb-Free; PartNumber: LMV228TLX/NOPB; Manufacturer: National Semiconductor; PackageTopMarking: X*I; PowerWise: Y; CompType: Analog IC; DatasheetVersion: Oct-2006; PackageVersion: revD, Mar-2005; PackageReference: TLA04AAA; PackageDescription: Thin Micro SMD, 4 Bump (Large), 0.5mm Pitch; RoHS: Y; PinCount: 4; High-Reliability: Y; Code_JEDEC: MO-211-BA; ComponentLink1Description: Manufacturer URL; ComponentLink1URL: http://www.national.com/; ComponentLink2Description: LMV228 Datasheet; ComponentLink2URL: http://www.national.com/ds/LM/LMV228.pdf; ComponentLink3Description: LMV228 Web Page; ComponentLink3URL: http://www.national.com/pf/LM/LMV228.html; ComponentLink4Description: TLA04AAA Package Page; ComponentLink4URL: http://www.national.com/packaging/folders/tla04aaa.html
footprint TLA04AAA (Micro SMD, 4-Leads, Body 1.01x1.01mm, Pitch 0.5mm, NSC Recommended)
pins: A1 RF IN/EN (in), A2 VDD (power), B1 GND (power), B2 OUT (out)

## LMV228UR/NOPB
designator U?
RF Power Detector for CDMA and WCDMA, 4-pin Micro SMD, Pb-Free; PartNumber: LMV228UR/NOPB; Manufacturer: National Semiconductor; PackageTopMarking: X*I; PowerWise: N; CompType: Analog IC; High-Reliability: Y; DatasheetVersion: Oct-2006; PackageVersion: revC, Mar-2005; PackageReference: URA04AAA; PackageDescription: Ultra Thin Micro SMD, 4 Bump (Large), 0.5mm Pitch; RoHS: Y; PinCount: 4; ComponentLink1Description: Manufacturer URL; ComponentLink1URL: http://www.national.com/; ComponentLink2Description: LMV228 Datasheet; ComponentLink2URL: http://www.national.com/ds/LM/LMV228.pdf; ComponentLink3Description: LMV228 Web Page; ComponentLink3URL: http://www.national.com/pf/LM/LMV228.html; ComponentLink4Description: URA04AAA Package Page; ComponentLink4URL: http://www.national.com/packaging/folders/ura04aaa.html
footprint URA04AAA (Micro SMD, 4-Leads, Body 0.98x0.98mm, Pitch 0.5mm, NSC Recommended)
pins: A1 RF IN/EN (in), A2 VDD (power), B1 GND (power), B2 OUT (out)

## LMV228URX/NOPB
designator U?
RF Power Detector for CDMA and WCDMA, 4-pin Micro SMD, Pb-Free; PartNumber: LMV228URX/NOPB; Manufacturer: National Semiconductor; PackageTopMarking: X*I; PowerWise: N; CompType: Analog IC; High-Reliability: Y; DatasheetVersion: Oct-2006; PackageVersion: revC, Mar-2005; PackageReference: URA04AAA; PackageDescription: Ultra Thin Micro SMD, 4 Bump (Large), 0.5mm Pitch; RoHS: Y; PinCount: 4; ComponentLink1Description: Manufacturer URL; ComponentLink1URL: http://www.national.com/; ComponentLink2Description: LMV228 Datasheet; ComponentLink2URL: http://www.national.com/ds/LM/LMV228.pdf; ComponentLink3Description: LMV228 Web Page; ComponentLink3URL: http://www.national.com/pf/LM/LMV228.html; ComponentLink4Description: URA04AAA Package Page; ComponentLink4URL: http://www.national.com/packaging/folders/ura04aaa.html
footprint URA04AAA (Micro SMD, 4-Leads, Body 0.98x0.98mm, Pitch 0.5mm, NSC Recommended)
pins: A1 RF IN/EN (in), A2 VDD (power), B1 GND (power), B2 OUT (out)

## LMV232TLX/NOPB
designator U?
Dual-Channel Integrated Mean Square Power Detector for CDMA & WCDMA, 8-pin Micro SMD, Pb-Free; PartNumber: LMV232TLX/NOPB; Manufacturer: National Semiconductor; PackageTopMarking: XVA*I 02; PowerWise: Y; CompType: Analog IC; DatasheetVersion: Apr-2005; PackageVersion: revC, Jan-2004; PackageReference: TLA08AAA; PackageDescription: Thin Micro SMD, 8 Bump (Large), 0.5mm Pitch; RoHS: Y; PinCount: 8; High-Reliability: Y; ComponentLink1Description: Manufacturer URL; ComponentLink1URL: http://www.national.com/; ComponentLink2Description: LMV232 Datasheet; ComponentLink2URL: http://www.national.com/ds/LM/LMV232.pdf; ComponentLink3Description: LMV232 Web Page; ComponentLink3URL: http://www.national.com/pf/LM/LMV232.html; ComponentLink4Description: TLA08AAA Package Page; ComponentLink4URL: http://www.national.com/packaging/folders/tla08aaa.html
footprint TLA08AAA (Micro SMD, 8-Leads, Body 1.52x1.52mm, Pitch 0.5mm, NSC Recommended)
pins: A1 RF IN 1 (in), A2 FB (in), A3 OUT (out), B1 GND (power), B3 VDD (power), C1 RF IN 2 (in), C2 BS (in), C3 SD (in)

## LMV242LDX
designator U?
Dual Output, Quad-Band GSM/GPRS Power Amplifier Controller, 10-pin LLP; PartNumber: LMV242LDX; Manufacturer: National Semiconductor; PackageTopMarking: ZXYTT*242LD; PowerWise: Y; CompType: Analog IC; DatasheetVersion: Jul-2004; PackageVersion: revB, Jan-2003; PackageReference: LDA10A; PackageDescription: LLP, Plastic, Dual, 3 x 3 x 0.75mm Body, 10 Lead, 0.5mm Pitch; RoHS: N; PinCount: 10; High-Reliability: Y; ComponentLink1Description: Manufacturer URL; ComponentLink1URL: http://www.national.com/; ComponentLink2Description: LMV242 Datasheet; ComponentLink2URL: http://www.national.com/ds/LM/LMV242.pdf; ComponentLink3Description: LMV242 Web Page; ComponentLink3URL: http://www.national.com/pf/LM/LMV242.html; ComponentLink4Description: LDA10A Package Page; ComponentLink4URL: http://www.national.com/packaging/folders/lda10a.html
footprint LDA10A (PSON, 10-Leads, Body 3x3mm, Pitch 0.5mm, NSC Recommended)
pins: 1 OUT 1 (out), 2 OUT 2 (out), 3 COMP 2, 4 VDD (power), 5 RF IN (in), 6 V RAMP (in), 7 TX_EN (in), 8 BS (in), 9 COMP 1, 10 GND (power), 11 DAP (power)

## LMV242LDX/NOPB
designator U?
Dual Output, Quad-Band GSM/GPRS Power Amplifier Controller, 10-pin LLP, Pb-Free; PartNumber: LMV242LDX/NOPB; Manufacturer: National Semiconductor; PackageTopMarking: ZXYTT*242LD; PowerWise: Y; CompType: Analog IC; DatasheetVersion: Jul-2004; PackageVersion: revB, Jan-2003; PackageReference: LDA10A; PackageDescription: LLP, Plastic, Dual, 3 x 3 x 0.75mm Body, 10 Lead, 0.5mm Pitch; RoHS: Y; PinCount: 10; High-Reliability: Y; ComponentLink1Description: Manufacturer URL; ComponentLink1URL: http://www.national.com/; ComponentLink2Description: LMV242 Datasheet; ComponentLink2URL: http://www.national.com/ds/LM/LMV242.pdf; ComponentLink3Description: LMV242 Web Page; ComponentLink3URL: http://www.national.com/pf/LM/LMV242.html; ComponentLink4Description: LDA10A Package Page; ComponentLink4URL: http://www.national.com/packaging/folders/lda10a.html
footprint LDA10A (PSON, 10-Leads, Body 3x3mm, Pitch 0.5mm, NSC Recommended)
pins: 1 OUT 1 (out), 2 OUT 2 (out), 3 COMP 2, 4 VDD (power), 5 RF IN (in), 6 V RAMP (in), 7 TX_EN (in), 8 BS (in), 9 COMP 1, 10 GND (power), 11 DAP (power)

## LMX2433TMX
designator U?
3.6 GHz/1.7 GHz PLLatinum Dual High Frequency Synthesizer for RF Personal Communications, 20-pin TSSOP; PartNumber: LMX2433TMX; Manufacturer: National Semiconductor; PackageTopMarking: NSUZXYTT*LMX2433*TMDD; PowerWise: N; CompType: Analog IC; High-Reliability: Y; DatasheetVersion: May-2003; PackageVersion: revE, Mar-2003; PackageReference: MTC20; PackageDescription: Molded TSSOP, Jedec, 6.5 x 4.4 x 0.9mm Body, 20 Lead, 0.65mm Pitch; RoHS: N; PinCount: 20; Code_JEDEC: MO-153-AC; ComponentLink1Description: Manufacturer URL; ComponentLink1URL: http://www.national.com/; ComponentLink2Description: LMX2433 Datasheet; ComponentLink2URL: http://www.national.com/ds/LM/LMX2433.pdf; ComponentLink3Description: LMX2433 Web Page; ComponentLink3URL: http://www.national.com/pf/LM/LMX2433.html; ComponentLink4Description: MTC20 Package Page; ComponentLink4URL: http://www.national.com/packaging/folders/mtc20.html
footprint MTC20_N (TSOP, 20-Leads, Body 6.5x4.4mm, Pitch 0.65mm, IPC Medium Density)
footprint MTC20_L (TSOP, 20-Leads, Body 6.5x4.4mm, Pitch 0.65mm, IPC High Density)
footprint MTC20_M (TSOP, 20-Leads, Body 6.5x4.4mm, Pitch 0.65mm, IPC Low Density)
pins: 1 VCC (power), 2 GND (power), 3 FIN IF (in), 4 EN (in), 5 CPOUT IF (out), 6 EN OSC (in), 7 OSC OUT/FLOUT IF (out), 8 OSC IN (in), 9 VCC (power), 10 FTEST/LD (hiz), 11 FLOUT RF (hiz), 12 GND (power), 13 CPOUT RF (out), 14 GND (power), 15 FIN RF (in), 16 FIN RF* (in), 17 VCC (power), 18 LE (in), 19 CLK (in), 20 DATA (in)

## LMX2433TMX/NOPB
designator U?
3.6 GHz/1.7 GHz PLLatinum Dual High Frequency Synthesizer for RF Personal Communications, 20-pin TSSOP, Pb-Free; PartNumber: LMX2433TMX/NOPB; Manufacturer: National Semiconductor; PackageTopMarking: NSUZXYTT*LMX2433*TMDD; PowerWise: N; CompType: Analog IC; High-Reliability: Y; DatasheetVersion: May-2003; PackageVersion: revE, Mar-2003; PackageReference: MTC20; PackageDescription: Molded TSSOP, Jedec, 6.5 x 4.4 x 0.9mm Body, 20 Lead, 0.65mm Pitch; RoHS: Y; PinCount: 20; Code_JEDEC: MO-153-AC; ComponentLink1Description: Manufacturer URL; ComponentLink1URL: http://www.national.com/; ComponentLink2Description: LMX2433 Datasheet; ComponentLink2URL: http://www.national.com/ds/LM/LMX2433.pdf; ComponentLink3Description: LMX2433 Web Page; ComponentLink3URL: http://www.national.com/pf/LM/LMX2433.html; ComponentLink4Description: MTC20 Package Page; ComponentLink4URL: http://www.national.com/packaging/folders/mtc20.html
footprint MTC20_N (TSOP, 20-Leads, Body 6.5x4.4mm, Pitch 0.65mm, IPC Medium Density)
footprint MTC20_L (TSOP, 20-Leads, Body 6.5x4.4mm, Pitch 0.65mm, IPC High Density)
footprint MTC20_M (TSOP, 20-Leads, Body 6.5x4.4mm, Pitch 0.65mm, IPC Low Density)
pins: 1 VCC (power), 2 GND (power), 3 FIN IF (in), 4 EN (in), 5 CPOUT IF (out), 6 EN OSC (in), 7 OSC OUT/FLOUT IF (out), 8 OSC IN (in), 9 VCC (power), 10 FTEST/LD (hiz), 11 FLOUT RF (hiz), 12 GND (power), 13 CPOUT RF (out), 14 GND (power), 15 FIN RF (in), 16 FIN RF* (in), 17 VCC (power), 18 LE (in), 19 CLK (in), 20 DATA (in)

## MF10CCN
designator U?
Universal Monolithic Dual Switched Capacitor Filter, 20-pin MDIP; PartNumber: MF10CCN; Manufacturer: National Semiconductor; PackageTopMarking: NSUZXYYTTE#*MF10CCN; PowerWise: N; CompType: Analog IC; High-Reliability: Y; DatasheetVersion: May-2001; PackageVersion: revG, Nov-1984; PackageReference: N20A; PackageDescription: Molded Dip (N) 20 Lead; RoHS: N; PinCount: 20; Code_JEDEC: MS-001-AD; ComponentLink1Description: Manufacturer URL; ComponentLink1URL: http://www.national.com/; ComponentLink2Description: MF10 Datasheet; ComponentLink2URL: http://www.national.com/ds/MF/MF10.pdf; ComponentLink3Description: MF10 Web Page; ComponentLink3URL: http://www.national.com/pf/MF/MF10.html; ComponentLink4Description: N20A Package Page; ComponentLink4URL: http://www.national.com/packaging/folders/n20a.html
footprint N20A (DIP, 20-Leads, Row Spacing 7.62mm, Pitch 2.54mm, Body 26.07x6.6mm)
pins: 1 LPA (out), 2 BPA (out), 3 N/AP/HPA (out), 4 INVA (in), 5 S1A (in), 6 SA/B (in), 7 VA+ (power), 8 VD+ (power), 9 LSH (in), 10 CLKA (in), 11 CLKB (in), 12 50/100/CL (in), 13 VD- (power), 14 VA- (power), 15 AGND (power), 16 S1B (in), 17 INVB (in), 18 N/AP/HPB (out), 19 BPB (out), 20 LPB (out)